# EAGLE library part M24C32-RDW6TP (library APU_ENGR480_UPS_EAGLE_Library)
STMICROELECTRONICS - M24C32-RDW6TP - EEPROM, 32KBIT, I2C, 1MHZ, TSSOP-8 Source: Datasheet <http://www.st.com/content/ccc/resource/technical/document/datasheet/80/4e/8c/54/f2/63/4c/4a/CD00001012.pdf/files/CD00001012.pdf/jcr:content/translations/en.CD00001012.pdf>
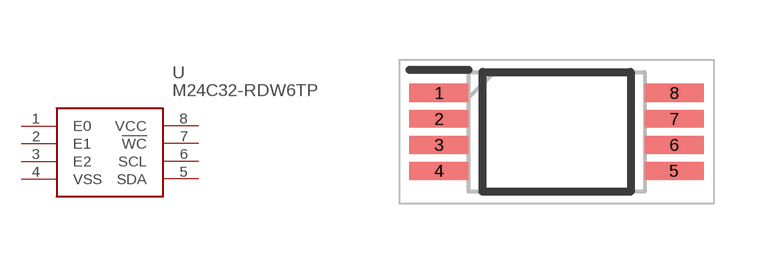
[diagram p6: symbol with the pads of SOP65P640X120-8N; footprint SOP65P640X120-8N]

Designator prefix U

## M24C32-RDW6TP (DESCRIPTION: STMICROELECTRONICS - M24C32-RDW6TP - EEPROM, 32KBIT, I2C, 1MHZ, TSSOP-8; HEIGHT: 1.2mm; MANUFACTURER_NAME: STMicroelectronics; MANUFACTURER_PART_NUMBER: M24C32-RDW6TP; MOUSER_PART_NUMBER: 511-M24C32-RDW6TP; MOUSER_PRICE-STOCK: https://www.mouser.com/Search/Refine.aspx?Keyword=511-M24C32-RDW6TP)  [SOP65P640X120-8N]
1  E0
2  E1
3  E2
4  VSS
5  SDA
6  SCL
7  !WC
8  VCC

## Footprint SOP65P640X120-8N (pad centres in mm)
M24C32-RDW6TP
smd 1.475 x 0.45: 1 -2.938,0.975; 2 -2.938,0.325; 3 -2.938,-0.325; 4 -2.938,-0.975; 5 2.938,-0.975; 6 2.938,-0.325; 7 2.938,0.325; 8 2.938,0.975